# Altium footprint library GRM21BR61E226ME44L.PcbLib: 3 footprints
Each footprint in its own frame and in the unit in brackets; x right, y up, seen from the top. Pads: shape width x height; smd on the part's side, far side on the other; paste and mask are expansions set on the pad; w line width, h text height; cw(c..) or ccw(c..) is an arc to the next point about the centre after c.
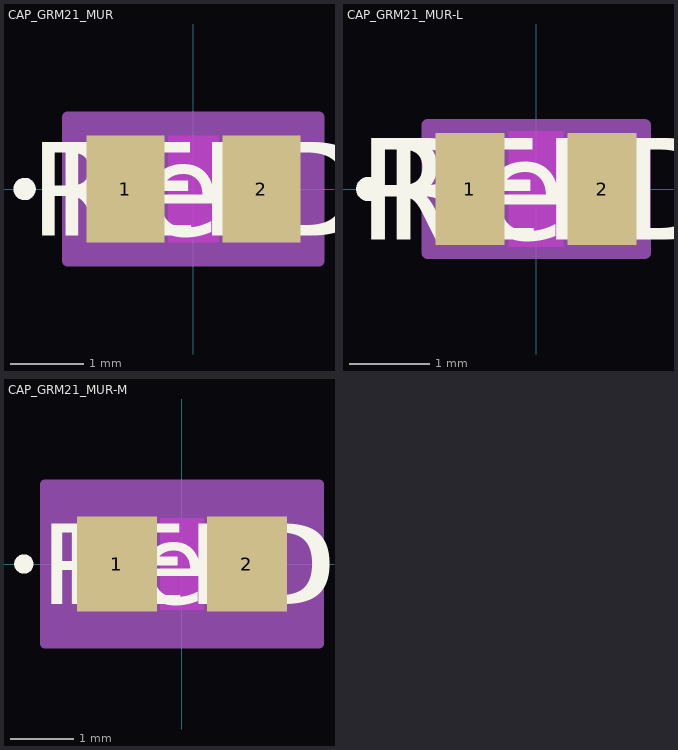
[diagram p0: the footprints below, top view; thin cyan lines are the x and y axes]

## CAP_GRM21_MUR [mil]
pads (2):
  rect 41.78x57 smd paste+0 mask+0: 1(-36.39,0) 2(36.39,0)
Top Layer keep-out:
  region: -13.5,-26.5 -13.5,26.5 13.5,26.5 13.5,-26.5
Top Overlay:
  circle w6: c-90.28,0 r3
  text "RefDes" at -75,-25 h50
  text "REFDES" at -87.5,-25 h50
Keep-Out Layer:
  region: -13.5,-28.5 -13.5,28.5 13.5,28.5 13.5,-28.5
Mechanical 13:
  circle w0: c-31.39,0 r3
  lines w1: -43.5,-28.5 -43.5,28.5 ; -43.5,-28.5 -15.5,-28.5 -15.5,28.5 -43.5,28.5 ; -43.5,-28.5 43.5,-28.5 ; -43.5,-28.5 -43.5,28.5 ; -43.5,28.5 43.5,28.5 ; 43.5,-28.5 15.5,-28.5 15.5,28.5 43.5,28.5 ; 43.5,-28.5 43.5,28.5 ; 43.5,-28.5 43.5,28.5
  text "RefDes2" at -87.5,-25 h50
Mechanical 15:
  region: 67.28,-38.5 -67.28,-38.5 -67.28,38.5 67.28,38.5
  lines w6: -67.28,-38.5 -67.28,38.5 67.28,38.5 67.28,-38.5 -67.28,-38.5
3D body "CAP_GRM21_MUR.step": height 57.01, standoff 0, extent -43.5,-28.5 43.5,28.5

## CAP_GRM21_MUR-L [mil]
pads (2):
  rect 33.91x55.03 smd paste+0 mask+0: 1(-32.45,0) 2(32.45,0)
Top Layer keep-out:
  region: -13.5,-26.5 -13.5,26.5 13.5,26.5 13.5,-26.5
Top Overlay:
  circle w6: c-82.41,0 r3
  text "RefDes" at -75,-25 h50
  text "REFDES" at -87.5,-25 h50
Keep-Out Layer:
  region: -13.5,-28.5 -13.5,28.5 13.5,28.5 13.5,-28.5
Mechanical 13:
  circle w0: c-27.45,0 r3
  lines w1: -43.5,-28.5 -43.5,28.5 ; -43.5,-28.5 -15.5,-28.5 -15.5,28.5 -43.5,28.5 ; -43.5,-28.5 43.5,-28.5 ; -43.5,-28.5 -43.5,28.5 ; -43.5,28.5 43.5,28.5 ; 43.5,-28.5 15.5,-28.5 15.5,28.5 43.5,28.5 ; 43.5,-28.5 43.5,28.5 ; 43.5,-28.5 43.5,28.5
  text "RefDes2" at -87.5,-25 h50
Mechanical 15:
  region: 53.41,-31.52 -53.41,-31.52 -53.41,31.52 53.41,31.52
  lines w6: -53.41,-31.52 -53.41,31.52 53.41,31.52 53.41,-31.52 -53.41,-31.52
3D body "CAP_GRM21_MUR.step": height 57.01, standoff 0, extent -43.5,-28.5 43.5,28.5

## CAP_GRM21_MUR-M [mil]
pads (2):
  rect 49.65x58.97 smd paste+0 mask+0: 1(-40.33,0) 2(40.33,0)
Top Layer keep-out:
  region: -13.5,-26.5 -13.5,26.5 13.5,26.5 13.5,-26.5
Top Overlay:
  circle w6: c-98.15,0 r3
  text "RefDes" at -75,-25 h50
  text "REFDES" at -87.5,-25 h50
Keep-Out Layer:
  region: -13.5,-28.5 -13.5,28.5 13.5,28.5 13.5,-28.5
Mechanical 13:
  circle w0: c-35.33,0 r3
  lines w1: -43.5,-28.5 -43.5,28.5 ; -43.5,-28.5 -15.5,-28.5 -15.5,28.5 -43.5,28.5 ; -43.5,-28.5 43.5,-28.5 ; -43.5,-28.5 -43.5,28.5 ; -43.5,28.5 43.5,28.5 ; 43.5,-28.5 15.5,-28.5 15.5,28.5 43.5,28.5 ; 43.5,-28.5 43.5,28.5 ; 43.5,-28.5 43.5,28.5
  text "RefDes2" at -87.5,-25 h50
Mechanical 15:
  region: 85.15,-49.48 -85.15,-49.48 -85.15,49.48 85.15,49.48
  lines w6: -85.15,-49.48 -85.15,49.48 85.15,49.48 85.15,-49.48 -85.15,-49.48
3D body "CAP_GRM21_MUR.step": height 57.01, standoff 0, extent -43.5,-28.5 43.5,28.5